# Altium footprint library WR-TBL_Wire Protector_10.00mm.PcbLib: 57 footprints (part 1 of 4)
Each footprint in its own frame and in the unit in brackets; x right, y up, seen from the top. Pads: shape width x height; smd on the part's side, far side on the other; paste and mask are expansions set on the pad; w line width, h text height; cw(c..) or ccw(c..) is an arc to the next point about the centre after c.
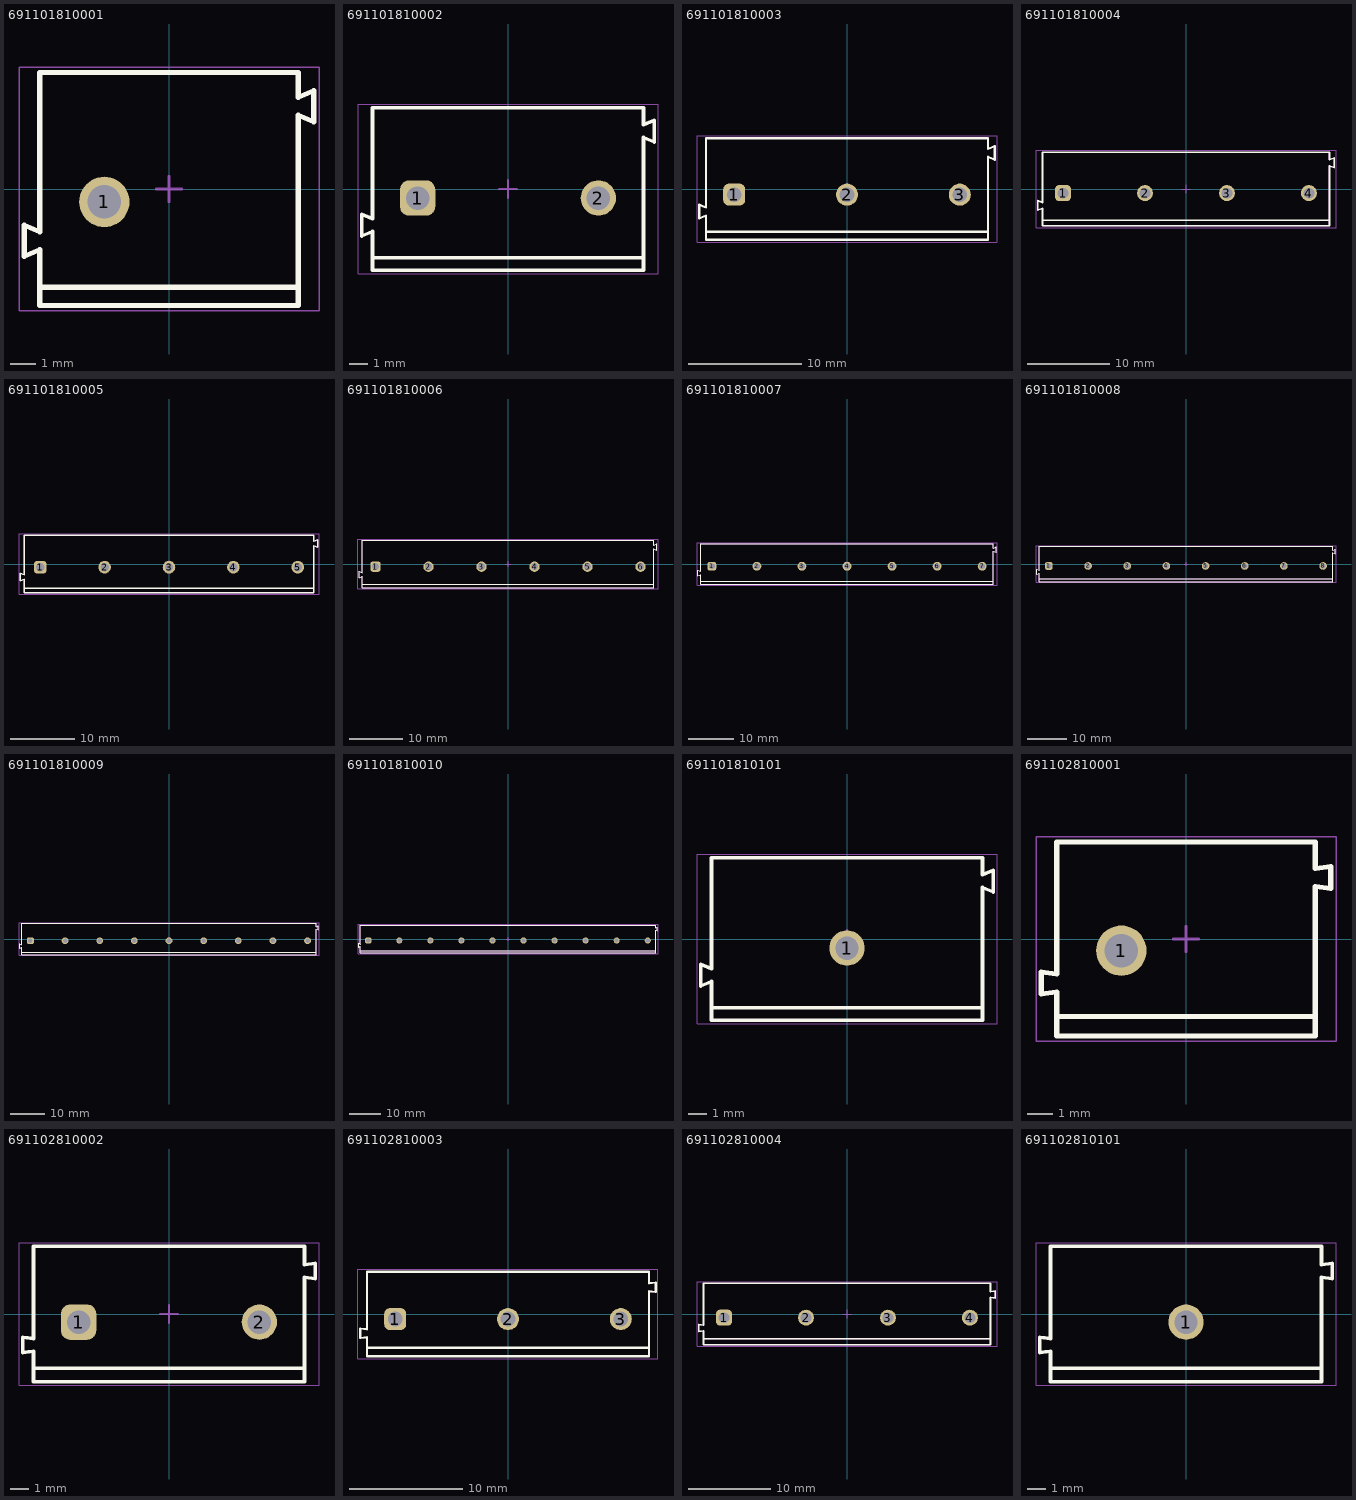
[diagram p0: the footprints below, top view; thin cyan lines are the x and y axes]

## 691101810001 [mm] "10mm Horizontal Entry Modular with Pressure Clamp, 1p"
height 12.6
pads (1):
  round 1.95 hole 1.3: 1(-2.5,-0.5)
Top Overlay:
  lines w0.2: -5,-3.8 5,-3.8 ; -5.6,-2.6 -5,-2.35 -5,-4.5 5,-4.5 5,2.85 5.6,2.6 5.6,3.8 5,3.55 5,4.5 -5,4.5 -5,-1.65 -5.6,-1.4 -5.6,-2.6
Top Assembly:
  lines w0.1: -5,-3.8 5,-3.8 ; -5.6,-2.6 -5,-2.35 -5,-4.5 5,-4.5 5,2.85 5.6,2.6 5.6,3.8 5,3.55 5,4.5 -5,4.5 -5,-1.65 -5.6,-1.4 -5.6,-2.6
Top Designator:
  text ".Designator" at -3.647,-0.357 h1
Top 3D Body:
  lines w0.1: -5,-3.8 5,-3.8 ; -5.6,-2.6 -5.6,-1.4 -5,-1.65 -5,4.5 5,4.5 5,3.55 5.6,3.8 5.6,2.6 5,2.85 5,-4.5 -5,-4.5 -5,-2.35 -5.6,-2.6
Top Courtyard:
  lines w0.05: -5.8,-4.7 5.8,-4.7 5.8,4.7 -5.8,4.7 -5.8,-4.7
Top Component Center:
  lines w0.1: -0.5,0 0.5,0 ; 0,-0.5 0,0.5
3D body "691101810001.stp": height 12.65, standoff -3.75, extent -5.6,-4.5 5.6,4.5

## 691101810002 [mm] "10mm Horizontal Entry Modular with Pressure Clamp, 2p"
height 12.6
pads (2):
  rrect50% 1.95x1.95 hole 1.3: 1(-5,-0.5)
  round 1.95 hole 1.3: 2(5,-0.5)
Top Overlay:
  lines w0.2: -7.5,-3.8 7.5,-3.8 ; -8.1,-2.6 -8.1,-1.4 -7.5,-1.65 -7.5,4.5 7.5,4.5 7.5,3.55 8.1,3.8 8.1,2.6 7.5,2.85 7.5,-4.5 -7.5,-4.5 -7.5,-2.35 -8.1,-2.6
Top Assembly:
  lines w0.1: -7.5,-3.8 7.5,-3.8 ; -8.1,-2.6 -8.1,-1.4 -7.5,-1.65 -7.5,4.5 7.5,4.5 7.5,3.55 8.1,3.8 8.1,2.6 7.5,2.85 7.5,-4.5 -7.5,-4.5 -7.5,-2.35 -8.1,-2.6
Top Designator:
  text ".Designator" at -3.647,-0.357 h1
Top 3D Body:
  lines w0.1: -7.5,-3.8 7.5,-3.8 ; -8.1,-2.6 -7.5,-2.35 -7.5,-4.5 7.5,-4.5 7.5,2.85 8.1,2.6 8.1,3.8 7.5,3.55 7.5,4.5 -7.5,4.5 -7.5,-1.65 -8.1,-1.4 -8.1,-2.6
Top Courtyard:
  lines w0.05: -8.3,-4.7 -8.3,4.7 8.3,4.7 8.3,-4.7 -8.3,-4.7
Top Component Center:
  lines w0.1: -0.5,0 0.5,0 ; 0,-0.5 0,0.5
3D body "691101810002.stp": height 12.65, standoff -3.75, extent -8.1,-4.5 8.1,4.5

## 691101810003 [mm] "10mm Horizontal Entry Modular with Pressure Clamp, 3p"
height 12.6
pads (3):
  rrect50% 1.95x1.95 hole 1.3: 1(-10,-0.5)
  round 1.95 hole 1.3: 2(0,-0.5) 3(10,-0.5)
Top Overlay:
  lines w0.2: -12.5,-3.8 12.5,-3.8 ; -13.1,-2.6 -13.1,-1.4 -12.5,-1.65 -12.5,4.5 12.5,4.5 12.5,3.55 13.1,3.8 13.1,2.6 12.5,2.85 12.5,-4.5 -12.5,-4.5 -12.5,-2.35 -13.1,-2.6
Top Assembly:
  lines w0.1: -12.5,-3.8 12.5,-3.8 ; -13.1,-2.6 -13.1,-1.4 -12.5,-1.65 -12.5,4.5 12.5,4.5 12.5,3.55 13.1,3.8 13.1,2.6 12.5,2.85 12.5,-4.5 -12.5,-4.5 -12.5,-2.35 -13.1,-2.6
Top Designator:
  text ".Designator" at -3.647,-0.357 h1
Top 3D Body:
  lines w0.1: -12.5,-3.8 12.5,-3.8 ; -13.1,-2.6 -12.5,-2.35 -12.5,-4.5 12.5,-4.5 12.5,2.85 13.1,2.6 13.1,3.8 12.5,3.55 12.5,4.5 -12.5,4.5 -12.5,-1.65 -13.1,-1.4 -13.1,-2.6
Top Courtyard:
  lines w0.05: -13.3,-4.7 -13.3,4.7 13.3,4.7 13.3,-4.7 -13.3,-4.7
Top Component Center:
  lines w0.1: -0.5,0 0.5,0 ; 0,-0.5 0,0.5
3D body "691101810003.stp": height 12.65, standoff -3.55, extent -13.1,-4.5 13.1,4.5

## 691101810004 [mm] "10mm Horizontal Entry Modular with Pressure Clamp, 4p"
height 12.6
pads (4):
  rrect50% 1.95x1.95 hole 1.3: 1(-15,-0.5)
  round 1.95 hole 1.3: 2(-5,-0.5) 3(5,-0.5) 4(15,-0.5)
Top Overlay:
  lines w0.2: -17.5,-3.8 17.5,-3.8 ; -18.1,-2.6 -17.5,-2.35 -17.5,-4.5 17.5,-4.5 17.5,2.85 18.1,2.6 18.1,3.8 17.5,3.55 17.5,4.5 -17.5,4.5 -17.5,-1.65 -18.1,-1.4 -18.1,-2.6
Top Assembly:
  lines w0.1: -17.5,-3.8 17.5,-3.8 ; -18.1,-2.6 -17.5,-2.35 -17.5,-4.5 17.5,-4.5 17.5,2.85 18.1,2.6 18.1,3.8 17.5,3.55 17.5,4.5 -17.5,4.5 -17.5,-1.65 -18.1,-1.4 -18.1,-2.6
Top Designator:
  text ".Designator" at -3.647,-0.357 h1
Top 3D Body:
  lines w0.1: -17.5,-3.8 17.5,-3.8 ; -18.1,-2.6 -18.1,-1.4 -17.5,-1.65 -17.5,4.5 17.5,4.5 17.5,3.55 18.1,3.8 18.1,2.6 17.5,2.85 17.5,-4.5 -17.5,-4.5 -17.5,-2.35 -18.1,-2.6
Top Courtyard:
  lines w0.05: -18.3,-4.7 -18.3,4.7 18.3,4.7 18.3,-4.7 -18.3,-4.7
Top Component Center:
  lines w0.1: -0.5,0 0.5,0 ; 0,-0.5 0,0.5
3D body "691101810004.stp": height 12.65, standoff -3.55, extent -18.1,-4.5 18.1,4.5

## 691101810005 [mm] "10mm Horizontal Entry Modular with Pressure Clamp, 5p"
height 12.6
pads (5):
  rrect50% 1.95x1.95 hole 1.3: 1(-20,-0.5)
  round 1.95 hole 1.3: 2(-10,-0.5) 3(0,-0.5) 4(10,-0.5) 5(20,-0.5)
Top Overlay:
  lines w0.2: -22.5,-3.8 22.5,-3.8 ; -23.1,-2.6 -23.1,-1.4 -22.5,-1.65 -22.5,4.5 22.5,4.5 22.5,3.55 23.1,3.8 23.1,2.6 22.5,2.85 22.5,-4.5 -22.5,-4.5 -22.5,-2.35 -23.1,-2.6
Top Assembly:
  lines w0.1: -22.5,-3.8 22.5,-3.8 ; -23.1,-2.6 -23.1,-1.4 -22.5,-1.65 -22.5,4.5 22.5,4.5 22.5,3.55 23.1,3.8 23.1,2.6 22.5,2.85 22.5,-4.5 -22.5,-4.5 -22.5,-2.35 -23.1,-2.6
Top Designator:
  text ".Designator" at -3.647,-0.357 h1
Top 3D Body:
  lines w0.1: -22.5,-3.8 22.5,-3.8 ; -23.1,-2.6 -22.5,-2.35 -22.5,-4.5 22.5,-4.5 22.5,2.85 23.1,2.6 23.1,3.8 22.5,3.55 22.5,4.5 -22.5,4.5 -22.5,-1.65 -23.1,-1.4 -23.1,-2.6
Top Courtyard:
  lines w0.05: -23.3,-4.7 -23.3,4.7 23.3,4.7 23.3,-4.7 -23.3,-4.7
Top Component Center:
  lines w0.1: -0.5,0 0.5,0 ; 0,-0.5 0,0.5
3D body "691101810005.stp": height 12.65, standoff -3.55, extent -23.1,-4.5 23.1,4.5

## 691101810006 [mm] "10mm Horizontal Entry Modular with Pressure Clamp, 6p"
height 12.6
pads (6):
  rrect50% 1.95x1.95 hole 1.3: 1(-25,-0.5)
  round 1.95 hole 1.3: 2(-15,-0.5) 3(-5,-0.5) 4(5,-0.5) 5(15,-0.5) 6(25,-0.5)
Top Overlay:
  lines w0.2: -27.5,-3.8 27.5,-3.8 ; -28.1,-2.6 -27.5,-2.35 -27.5,-4.5 27.5,-4.5 27.5,2.85 28.1,2.6 28.1,3.8 27.5,3.55 27.5,4.5 -27.5,4.5 -27.5,-1.65 -28.1,-1.4 -28.1,-2.6
Top Assembly:
  lines w0.1: -27.5,-3.8 27.5,-3.8 ; -28.1,-2.6 -27.5,-2.35 -27.5,-4.5 27.5,-4.5 27.5,2.85 28.1,2.6 28.1,3.8 27.5,3.55 27.5,4.5 -27.5,4.5 -27.5,-1.65 -28.1,-1.4 -28.1,-2.6
Top Designator:
  text ".Designator" at -3.647,-0.357 h1
Top 3D Body:
  lines w0.1: -27.5,-3.8 27.5,-3.8 ; -28.1,-2.6 -28.1,-1.4 -27.5,-1.65 -27.5,4.5 27.5,4.5 27.5,3.55 28.1,3.8 28.1,2.6 27.5,2.85 27.5,-4.5 -27.5,-4.5 -27.5,-2.35 -28.1,-2.6
Top Courtyard:
  lines w0.05: -28.3,-4.7 -28.3,4.7 28.3,4.7 28.3,-4.7 -28.3,-4.7
Top Component Center:
  lines w0.1: -0.5,0 0.5,0 ; 0,-0.5 0,0.5
3D body "691101810006.stp": height 12.65, standoff -3.55, extent -28.1,-4.5 28.1,4.5

## 691101810007 [mm] "10mm Horizontal Entry Modular with Pressure Clamp, 7p"
height 12.6
pads (7):
  rrect50% 1.95x1.95 hole 1.3: 1(-30,-0.5)
  round 1.95 hole 1.3: 2(-20,-0.5) 3(-10,-0.5) 4(0,-0.5) 5(10,-0.5) 6(20,-0.5) 7(30,-0.5)
Top Overlay:
  lines w0.2: -32.5,-3.8 32.5,-3.8 ; -33.1,-2.6 -32.5,-2.35 -32.5,-4.5 32.5,-4.5 32.5,2.85 33.1,2.6 33.1,3.8 32.5,3.55 32.5,4.5 -32.5,4.5 -32.5,-1.65 -33.1,-1.4 -33.1,-2.6
Top Assembly:
  lines w0.1: -32.5,-3.8 32.5,-3.8 ; -33.1,-2.6 -32.5,-2.35 -32.5,-4.5 32.5,-4.5 32.5,2.85 33.1,2.6 33.1,3.8 32.5,3.55 32.5,4.5 -32.5,4.5 -32.5,-1.65 -33.1,-1.4 -33.1,-2.6
Top Designator:
  text ".Designator" at -3.647,-0.357 h1
Top 3D Body:
  lines w0.1: -32.5,-3.8 32.5,-3.8 ; -33.1,-2.6 -33.1,-1.4 -32.5,-1.65 -32.5,4.5 32.5,4.5 32.5,3.55 33.1,3.8 33.1,2.6 32.5,2.85 32.5,-4.5 -32.5,-4.5 -32.5,-2.35 -33.1,-2.6
Top Courtyard:
  lines w0.05: -33.3,-4.7 33.3,-4.7 33.3,4.7 -33.3,4.7 -33.3,-4.7
Top Component Center:
  lines w0.1: -0.5,0 0.5,0 ; 0,-0.5 0,0.5
3D body "691101810007.stp": height 12.65, standoff -3.55, extent -33.1,-4.5 33.1,4.5

## 691101810008 [mm] "10mm Horizontal Entry Modular with Pressure Clamp, 8p"
height 12.6
pads (8):
  rrect50% 1.95x1.95 hole 1.3: 1(-35,-0.5)
  round 1.95 hole 1.3: 2(-25,-0.5) 3(-15,-0.5) 4(-5,-0.5) 5(5,-0.5) 6(15,-0.5) 7(25,-0.5) 8(35,-0.5)
Top Overlay:
  lines w0.2: -37.5,-3.8 37.5,-3.8 ; -38.1,-2.6 -38.1,-1.4 -37.5,-1.65 -37.5,4.5 37.5,4.5 37.5,3.55 38.1,3.8 38.1,2.6 37.5,2.85 37.5,-4.5 -37.5,-4.5 -37.5,-2.35 -38.1,-2.6
Top Assembly:
  lines w0.1: -37.5,-3.8 37.5,-3.8 ; -38.1,-2.6 -38.1,-1.4 -37.5,-1.65 -37.5,4.5 37.5,4.5 37.5,3.55 38.1,3.8 38.1,2.6 37.5,2.85 37.5,-4.5 -37.5,-4.5 -37.5,-2.35 -38.1,-2.6
Top Designator:
  text ".Designator" at -3.647,-0.357 h1
Top 3D Body:
  lines w0.1: -37.5,-3.8 37.5,-3.8 ; -38.1,-2.6 -37.5,-2.35 -37.5,-4.5 37.5,-4.5 37.5,2.85 38.1,2.6 38.1,3.8 37.5,3.55 37.5,4.5 -37.5,4.5 -37.5,-1.65 -38.1,-1.4 -38.1,-2.6
Top Courtyard:
  lines w0.05: -38.3,-4.7 38.3,-4.7 38.3,4.7 -38.3,4.7 -38.3,-4.7
Top Component Center:
  lines w0.1: -0.5,0 0.5,0 ; 0,-0.5 0,0.5
3D body "691101810008.stp": height 12.65, standoff -3.55, extent -38.1,-4.5 38.1,4.5

## 691101810009 [mm] "10mm Horizontal Entry Modular with Pressure Clamp, 9p"
height 12.6
pads (9):
  rrect50% 1.95x1.95 hole 1.3: 1(-40,-0.5)
  round 1.95 hole 1.3: 2(-30,-0.5) 3(-20,-0.5) 4(-10,-0.5) 5(0,-0.5) 6(10,-0.5) 7(20,-0.5) 8(30,-0.5) 9(40,-0.5)
Top Overlay:
  lines w0.2: -42.5,-3.8 42.5,-3.8 ; -43.1,-2.6 -42.5,-2.35 -42.5,-4.5 42.5,-4.5 42.5,2.85 43.1,2.6 43.1,3.8 42.5,3.55 42.5,4.5 -42.5,4.5 -42.5,-1.65 -43.1,-1.4 -43.1,-2.6
Top Assembly:
  lines w0.1: -42.5,-3.8 42.5,-3.8 ; -43.1,-2.6 -42.5,-2.35 -42.5,-4.5 42.5,-4.5 42.5,2.85 43.1,2.6 43.1,3.8 42.5,3.55 42.5,4.5 -42.5,4.5 -42.5,-1.65 -43.1,-1.4 -43.1,-2.6
Top Designator:
  text ".Designator" at -3.647,-0.357 h1
Top 3D Body:
  lines w0.1: -42.5,-3.8 42.5,-3.8 ; -43.1,-2.6 -43.1,-1.4 -42.5,-1.65 -42.5,4.5 42.5,4.5 42.5,3.55 43.1,3.8 43.1,2.6 42.5,2.85 42.5,-4.5 -42.5,-4.5 -42.5,-2.35 -43.1,-2.6
Top Courtyard:
  lines w0.05: -43.3,-4.7 43.3,-4.7 43.3,4.7 -43.3,4.7 -43.3,-4.7
Top Component Center:
  lines w0.1: -0.5,0 0.5,0 ; 0,-0.5 0,0.5
3D body "691101810009.stp": height 12.65, standoff -3.55, extent -43.1,-4.5 43.1,4.5

## 691101810010 [mm] "10mm Horizontal Entry Modular with Pressure Clamp, 10p"
height 12.6
pads (10):
  rrect50% 1.95x1.95 hole 1.3: 1(-45,-0.5)
  round 1.95 hole 1.3: 2(-35,-0.5) 3(-25,-0.5) 4(-15,-0.5) 5(-5,-0.5) 6(5,-0.5) 7(15,-0.5) 8(25,-0.5) 9(35,-0.5) 10(45,-0.5)
Top Overlay:
  lines w0.2: -47.5,-3.8 47.5,-3.8 ; -48.1,-2.6 -47.5,-2.35 -47.5,-4.5 47.5,-4.5 47.5,2.85 48.1,2.6 48.1,3.8 47.5,3.55 47.5,4.5 -47.5,4.5 -47.5,-1.65 -48.1,-1.4 -48.1,-2.6
Top Assembly:
  lines w0.1: -47.5,-3.8 47.5,-3.8 ; -48.1,-2.6 -47.5,-2.35 -47.5,-4.5 47.5,-4.5 47.5,2.85 48.1,2.6 48.1,3.8 47.5,3.55 47.5,4.5 -47.5,4.5 -47.5,-1.65 -48.1,-1.4 -48.1,-2.6
Top Designator:
  text ".Designator" at -3.647,-0.357 h1
Top 3D Body:
  lines w0.1: -47.5,-3.8 47.5,-3.8 ; -48.1,-2.6 -48.1,-1.4 -47.5,-1.65 -47.5,4.5 47.5,4.5 47.5,3.55 48.1,3.8 48.1,2.6 47.5,2.85 47.5,-4.5 -47.5,-4.5 -47.5,-2.35 -48.1,-2.6
Top Courtyard:
  lines w0.05: -48.3,-4.7 -48.3,4.7 48.3,4.7 48.3,-4.7 -48.3,-4.7
Top Component Center:
  lines w0.1: -0.5,0 0.5,0 ; 0,-0.5 0,0.5
3D body "691101810010.stp": height 12.65, standoff -3.55, extent -48.1,-4.5 48.1,4.5

## 691101810101 [mm] "10mm Horizontal Entry Modular with Pressure Clamp, 1p"
height 12.6
pads (1):
  round 1.95 hole 1.3: 1(0,-0.5)
Top Overlay:
  lines w0.2: -7.5,-3.8 7.5,-3.8 ; -8.1,-2.6 -7.5,-2.35 -7.5,-4.5 7.5,-4.5 7.5,2.85 8.1,2.6 8.1,3.8 7.5,3.55 7.5,4.5 -7.5,4.5 -7.5,-1.65 -8.1,-1.4 -8.1,-2.6
Top Assembly:
  lines w0.1: -7.5,-3.8 7.5,-3.8 ; -8.1,-2.6 -7.5,-2.35 -7.5,-4.5 7.5,-4.5 7.5,2.85 8.1,2.6 8.1,3.8 7.5,3.55 7.5,4.5 -7.5,4.5 -7.5,-1.65 -8.1,-1.4 -8.1,-2.6
Top Designator:
  text ".Designator" at -3.647,-0.357 h1
Top 3D Body:
  lines w0.1: -7.5,-3.8 7.5,-3.8 ; -8.1,-2.6 -8.1,-1.4 -7.5,-1.65 -7.5,4.5 7.5,4.5 7.5,3.55 8.1,3.8 8.1,2.6 7.5,2.85 7.5,-4.5 -7.5,-4.5 -7.5,-2.35 -8.1,-2.6
Top Courtyard:
  lines w0.05: -8.3,-4.7 8.3,-4.7 8.3,4.7 -8.3,4.7 -8.3,-4.7
Top Component Center:
  lines w0.1: -0.5,0 0.5,0 ; 0,-0.5 0,0.5
3D body "691101810101.stp": height 12.65, standoff -3.75, extent -8.1,-4.5 8.1,4.5

## 691102810001 [mm] "10mm Horizontal Entry with Pressure Clamp, 1p"
height 10
pads (1):
  round 1.95 hole 1.3: 1(-2.5,-0.45)
Top Overlay:
  lines w0.2: -5,-3.75 5,-3.75 ; -5,-3.749 -5,-2.055 -5.6,-2.13 -5.6,-1.28 -5,-1.355 -5,3.749 ; -5,-3 5,-3 ; -5,3.75 5,3.75 5,2.725 5.6,2.8 5.6,1.95 5,2.025 4.999,-3.749
Top Assembly:
  lines w0.1: -5,-3.75 5,-3.75 ; -5,-3.749 -5,-2.055 -5.6,-2.13 -5.6,-1.28 -5,-1.355 -5,3.749 ; -5,-3 5,-3 ; -5,3.75 5,3.75 5,2.725 5.6,2.8 5.6,1.95 5,2.025 4.999,-3.749
Top Designator:
  text ".Designator" at -3.647,-0.357 h1
Top 3D Body:
  lines w0.1: -5,-3.75 5,-3.75 ; -5,-3.749 -5,-2.055 -5.6,-2.13 -5.6,-1.28 -5,-1.355 -5,3.749 ; -5,-3 5,-3 ; -5,3.75 5,3.75 5,2.725 5.6,2.8 5.6,1.95 5,2.025 4.999,-3.749
Top Courtyard:
  lines w0.05: -5.8,-3.95 5.8,-3.95 5.8,3.95 -5.8,3.95 -5.8,-3.95
Top Component Center:
  lines w0.1: -0.5,0 0.5,0 ; 0,-0.5 0,0.5
3D body "691102810001.stp": height 10.05, standoff -3.45, extent -5.599,-3.75 5.601,3.75

## 691102810002 [mm] "10mm Horizontal Entry with Pressure Clamp, 2p"
height 10
pads (2):
  rrect50% 1.95x1.95 hole 1.3: 1(-5,-0.45)
  round 1.95 hole 1.3: 2(5,-0.45)
Top Overlay:
  lines w0.2: -7.5,-3.75 7.5,-3.75 7.5,2.025 8.101,1.949 8.101,2.799 7.501,2.724 ; -7.5,-3.749 -7.5,-2.054 -8.1,-2.129 -8.1,-1.279 -7.5,-1.355 -7.5,3.75 7.5,3.75 ; -7.5,-3 7.5,-3 ; 7.501,2.725 7.501,3.749
Top Assembly:
  lines w0.1: -7.5,-3.75 7.5,-3.75 7.5,2.025 8.101,1.949 8.101,2.799 7.501,2.724 ; -7.5,-3.749 -7.5,-2.054 -8.1,-2.129 -8.1,-1.279 -7.5,-1.355 -7.5,3.75 7.5,3.75 ; -7.5,-3 7.5,-3 ; 7.501,2.725 7.501,3.749
Top Designator:
  text ".Designator" at -3.647,-0.357 h1
Top 3D Body:
  lines w0.1: -7.5,-3.75 7.5,-3.75 7.5,2.025 8.101,1.949 8.101,2.799 7.501,2.724 ; -7.5,-3.749 -7.5,-2.054 -8.1,-2.129 -8.1,-1.279 -7.5,-1.355 -7.5,3.75 7.5,3.75 ; -7.5,-3 7.5,-3 ; 7.501,2.725 7.501,3.749
Top Courtyard:
  lines w0.05: -8.3,-3.95 8.3,-3.95 8.3,3.95 -8.3,3.95 -8.3,-3.95
Top Component Center:
  lines w0.1: -0.5,0 0.5,0 ; 0,-0.5 0,0.5
3D body "691102810002.stp": height 10.05, standoff -3.45, extent -8.099,-3.75 8.101,3.75

## 691102810003 [mm] "10mm Horizontal Entry with Pressure Clamp, 3p"
height 10
pads (3):
  rrect50% 1.95x1.95 hole 1.3: 1(-10,-0.45)
  round 1.95 hole 1.3: 2(0,-0.45) 3(10,-0.45)
Top Overlay:
  lines w0.2: -12.5,-3.75 12.5,-3.75 12.5,2.025 13.101,1.949 13.101,2.799 12.501,2.724 ; -12.5,-3.749 -12.5,-2.054 -13.1,-2.129 -13.1,-1.279 -12.5,-1.355 -12.5,3.75 12.5,3.75 ; -12.5,-3 12.5,-3 ; 12.501,2.725 12.501,3.749
Top Assembly:
  lines w0.1: -12.5,-3.75 12.5,-3.75 12.5,2.025 13.101,1.949 13.101,2.799 12.501,2.724 ; -12.5,-3.749 -12.5,-2.054 -13.1,-2.129 -13.1,-1.279 -12.5,-1.355 -12.5,3.75 12.5,3.75 ; -12.5,-3 12.5,-3 ; 12.501,2.725 12.501,3.749
Top Designator:
  text ".Designator" at -3.647,-0.357 h1
Top 3D Body:
  lines w0.1: -12.5,-3.75 12.5,-3.75 12.5,2.025 13.101,1.949 13.101,2.799 12.501,2.724 ; -12.5,-3.749 -12.5,-2.054 -13.1,-2.129 -13.1,-1.279 -12.5,-1.355 -12.5,3.75 12.5,3.75 ; -12.5,-3 12.5,-3 ; 12.501,2.725 12.501,3.749
Top Courtyard:
  lines w0.05: -13.3,-3.95 13.3,-3.95 13.3,3.95 -13.3,3.95 -13.3,-3.95
Top Component Center:
  lines w0.1: -0.5,0 0.5,0 ; 0,-0.5 0,0.5
3D body "691102810003.stp": height 10.05, standoff -3.45, extent -13.1,-3.75 13.1,3.75

## 691102810004 [mm] "10mm Horizontal Entry with Pressure Clamp, 4p"
height 10
pads (4):
  rrect50% 1.95x1.95 hole 1.3: 1(-15,-0.45)
  round 1.95 hole 1.3: 2(-5,-0.45) 3(5,-0.45) 4(15,-0.45)
Top Overlay:
  lines w0.2: -17.5,-3.75 17.5,-3.75 17.5,2.025 18.101,1.949 18.101,2.799 17.501,2.724 ; -17.5,-3.749 -17.5,-2.054 -18.1,-2.129 -18.1,-1.279 -17.5,-1.355 -17.5,3.75 17.5,3.75 ; -17.5,-3 17.5,-3 ; 17.501,2.725 17.501,3.749
Top Assembly:
  lines w0.1: -17.5,-3.75 17.5,-3.75 17.5,2.025 18.101,1.949 18.101,2.799 17.501,2.724 ; -17.5,-3.749 -17.5,-2.054 -18.1,-2.129 -18.1,-1.279 -17.5,-1.355 -17.5,3.75 17.5,3.75 ; -17.5,-3 17.5,-3 ; 17.501,2.725 17.501,3.749
Top Designator:
  text ".Designator" at -3.647,-0.357 h1
Top 3D Body:
  lines w0.1: -17.5,-3.75 17.5,-3.75 17.5,2.025 18.101,1.949 18.101,2.799 17.501,2.724 ; -17.5,-3.749 -17.5,-2.054 -18.1,-2.129 -18.1,-1.279 -17.5,-1.355 -17.5,3.75 17.5,3.75 ; -17.5,-3 17.5,-3 ; 17.501,2.725 17.501,3.749
Top Courtyard:
  lines w0.05: -18.3,-3.95 18.3,-3.95 18.3,3.95 -18.3,3.95 -18.3,-3.95
Top Component Center:
  lines w0.1: -0.5,0 0.5,0 ; 0,-0.5 0,0.5
3D body "691102810004.stp": height 10.05, standoff -3.45, extent -18.1,-3.75 18.1,3.75

## 691102810101 [mm] "10mm Horizontal Entry with Pressure Clamp, 1p"
height 10
pads (1):
  round 1.95 hole 1.3: 1(0,-0.45)
Top Overlay:
  lines w0.2: -7.5,-3.75 7.5,-3.75 7.5,2.025 8.101,1.949 8.101,2.799 7.501,2.724 ; -7.5,-3.749 -7.5,-2.054 -8.1,-2.129 -8.1,-1.279 -7.5,-1.355 -7.5,3.75 7.5,3.75 ; -7.5,-3 7.5,-3 ; 7.501,2.725 7.501,3.749
Top Assembly:
  lines w0.1: -7.5,-3.75 7.5,-3.75 7.5,2.025 8.101,1.949 8.101,2.799 7.501,2.724 ; -7.5,-3.749 -7.5,-2.054 -8.1,-2.129 -8.1,-1.279 -7.5,-1.355 -7.5,3.75 7.5,3.75 ; -7.5,-3 7.5,-3 ; 7.501,2.725 7.501,3.749
Top Designator:
  text ".Designator" at -3.647,-0.357 h1
Top 3D Body:
  lines w0.1: -7.5,-3.75 7.5,-3.75 7.5,2.025 8.101,1.949 8.101,2.799 7.501,2.724 ; -7.5,-3.749 -7.5,-2.054 -8.1,-2.129 -8.1,-1.279 -7.5,-1.355 -7.5,3.75 7.5,3.75 ; -7.5,-3 7.5,-3 ; 7.501,2.725 7.501,3.749
Top Courtyard:
  lines w0.05: -8.3,-3.95 -8.3,3.95 8.3,3.95 8.3,-3.95 -8.3,-3.95
Top Component Center:
  lines w0.1: -0.5,0 0.5,0 ; 0,-0.5 0,0.5
3D body "691102810101.stp": height 10.05, standoff -3.45, extent -8.099,-3.75 8.101,3.75